# Altium footprint library PCB - RESISTOR - CHIP - STACKPOLE CSR1206.PCBLIB: 1 footprints
Each footprint in its own frame and in the unit in brackets; x right, y up, seen from the top. Pads: shape width x height; smd on the part's side, far side on the other; paste and mask are expansions set on the pad; w line width, h text height; cw(c..) or ccw(c..) is an arc to the next point about the centre after c.
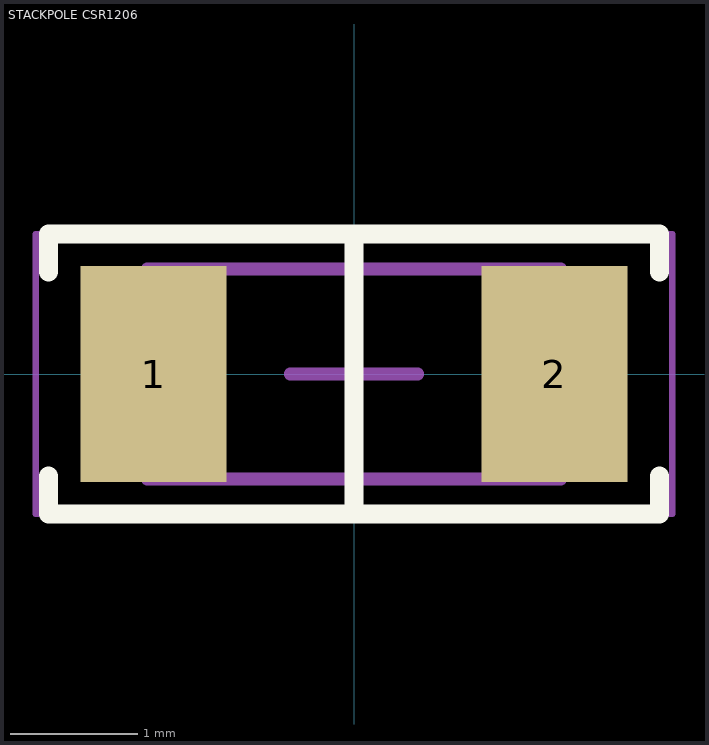
[diagram p0: the footprint, top view; thin cyan lines are the x and y axes]

## STACKPOLE CSR1206 [mm] "Chip Resistor, 2-Leads, Body 3.13x1.55mm, IPC Medium Density"
height 0.7
pads (2):
  rect 1.15x1.7 smd: 1(-1.575,0) 2(1.575,0)
Top Overlay:
  lines w0.15: -2.4,-0.8 -2.4,-1.1 2.4,-1.1 2.4,-0.8 ; -2.4,0.8 -2.4,1.1 2.4,1.1 2.4,0.8 ; 0,-1.1 0,1.1
Mechanical 13:
  lines w0.1: -1.625,-0.825 1.625,-0.825 1.625,0.825 -1.625,0.825 -1.625,-0.825
Mechanical 15:
  lines w0.05: -2.5,-1.1 2.5,-1.1 2.5,1.1 -2.5,1.1 -2.5,-1.1
  lines w0.1: -0.5,0 0.5,0 ; 0,-0.5 0,0.5
3D body "Stackpole CSR1206 Res.STEP": height 0.55, standoff 0, extent -1.6,-0.775 1.6,0.775